# EAGLE library part MP1584EN (library Ravender)
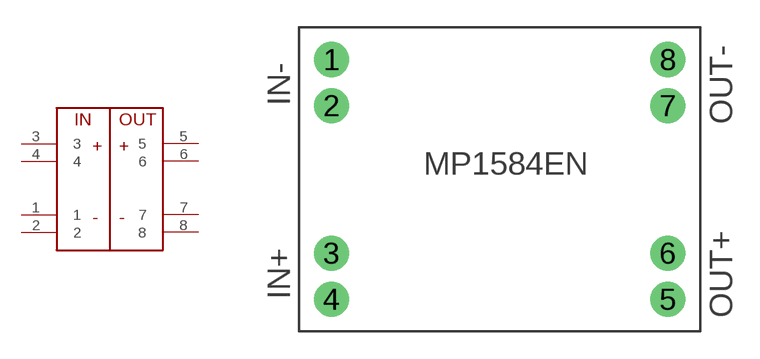
[diagram p4: symbol with the pads of MP1584EN_P; footprint MP1584EN_P]

Designator prefix -

## MP1584EN  [MP1584EN_P]
1  1
2  2
3  3
4  4
5  5
6  6
7  7
8  8

## Footprint MP1584EN_P (pad centres in mm)
drill 0.8 pad 1.93: 1 0,0; 2 0,-2.54; 3 0,-10.668; 4 0,-13.208; 5 18.542,-13.208; 6 18.542,-10.668; 7 18.542,-2.54; 8 18.542,0